# EAGLE library part J30J-31 (library CM_J30J)
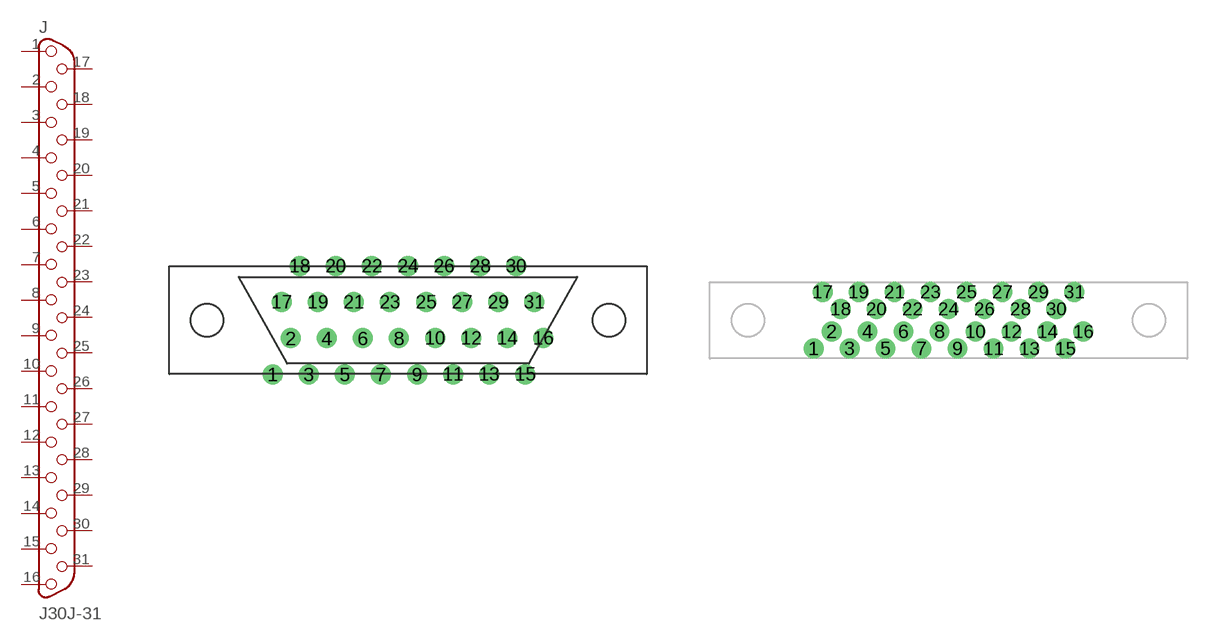
[diagram p2: symbol with the pads of ZKN-31; footprints ZKN-31, ZKN-31-J30]

Designator prefix J

## J30J-31J30J  [ZKN-31]
1  1
2  2
3  3
4  4
5  5
6  6
7  7
8  8
9  9
10  10
11  11
12  12
13  13
14  14
15  15
16  16
17  17
18  18
19  19
20  20
21  21
22  22
23  23
24  24
25  25
26  26
27  27
28  28
29  29
30  30
31  31

## J30J-31J30  [ZKN-31-J30]
Pads as for ZKN-31

## Footprint ZKN-31 (pad centres in mm)
drill 0.9: 1 -9.525,-3.81; 2 -8.255,-1.27; 3 -6.985,-3.81; 4 -5.715,-1.27; 5 -4.445,-3.81; 6 -3.175,-1.27; 7 -1.905,-3.81; 8 -0.635,-1.27; 9 0.635,-3.81; 10 1.905,-1.27; 11 3.175,-3.81; 12 4.445,-1.27; 13 5.715,-3.81; 14 6.985,-1.27; 15 8.255,-3.81; 16 9.525,-1.27; 17 -8.89,1.27; 18 -7.62,3.81; 19 -6.35,1.27; 20 -5.08,3.81; 21 -3.81,1.27; 22 -2.54,3.81; 23 -1.27,1.27; 24 0,3.81; 25 1.27,1.27; 26 2.54,3.81; 27 3.81,1.27; 28 5.08,3.81; 29 6.35,1.27; 30 7.62,3.81; 31 8.89,1.27

## Footprint ZKN-31-J30 (pad centres in mm)
drill 0.9: 1 -9.525,-2; 2 -8.255,-0.8; 3 -6.985,-2; 4 -5.715,-0.8; 5 -4.445,-2; 6 -3.175,-0.8; 7 -1.905,-2; 8 -0.635,-0.8; 9 0.635,-2; 10 1.905,-0.8; 11 3.175,-2; 12 4.445,-0.8; 13 5.715,-2; 14 6.985,-0.8; 15 8.255,-2; 16 9.525,-0.8; 17 -8.89,2; 18 -7.62,0.8; 19 -6.35,2; 20 -5.08,0.8; 21 -3.81,2; 22 -2.54,0.8; 23 -1.27,2; 24 0,0.8; 25 1.27,2; 26 2.54,0.8; 27 3.81,2; 28 5.08,0.8; 29 6.35,2; 30 7.62,0.8; 31 8.89,2